# Altium footprint library ard_shield.PcbLib: 1 footprints
Each footprint in its own frame and in the unit in brackets; x right, y up, seen from the top. Pads: shape width x height; smd on the part's side, far side on the other; paste and mask are expansions set on the pad; w line width, h text height; cw(c..) or ccw(c..) is an arc to the next point about the centre after c.
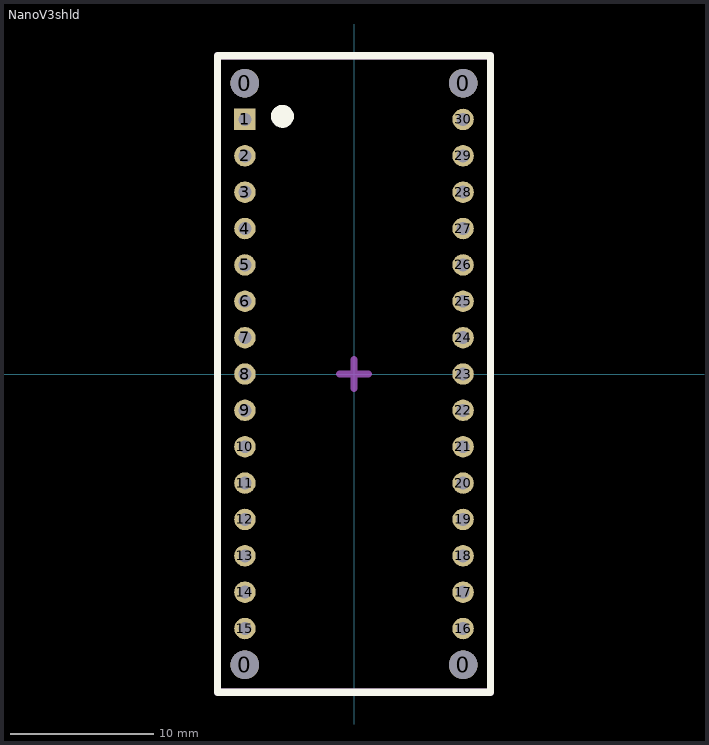
[diagram p0: the footprint, top view; thin cyan lines are the x and y axes]

## NanoV3shld [mm]
height 7.5
pads (34):
  round 2 hole 2: 0(-7.62,-20.32) 0(-7.62,20.32) 0(7.62,-20.32) 0(7.62,20.32)
  rect 1.5x1.5 hole 0.9: 1(-7.62,17.78)
  round 1.5 hole 0.9: 2(-7.62,15.24) 3(-7.62,12.7) 4(-7.62,10.16) 5(-7.62,7.62) 6(-7.62,5.08) 7(-7.62,2.54) 8(-7.62,0) 9(-7.62,-2.54) 10(-7.62,-5.08) 11(-7.62,-7.62) 12(-7.62,-10.16) 13(-7.62,-12.7) 14(-7.62,-15.24) 15(-7.62,-17.78) 16(7.62,-17.78) 17(7.62,-15.24) 18(7.62,-12.7) 19(7.62,-10.16) 20(7.62,-7.62) 21(7.62,-5.08) 22(7.62,-2.54) 23(7.62,0) 24(7.62,2.54) 25(7.62,5.08) 26(7.62,7.62) 27(7.62,10.16) 28(7.62,12.7) 29(7.62,15.24) 30(7.62,17.78)
Top Overlay:
  circle w0.8: c-5,18 r0.4
  lines w0.5: -9.525,-22.225 9.525,-22.225 9.525,22.225 -9.525,22.225 -9.525,-22.225
Mechanical 13:
  lines w0.5: -9.525,-22.225 9.525,-22.225 9.525,22.225 -9.525,22.225 -9.525,-22.225
Mechanical 15:
  lines w0.5: -1,0 0,0 ; 0,-1 0,0 ; 0,1 0,0 ; 1,0 0,0 ; -9.525,-22.225 9.525,-22.225 9.525,22.225 -9.525,22.225 -9.525,-22.225
3D body: height 13, standoff 10, extent -5.091,6.339 5.091,8.901
3D body: height 13, standoff 10, extent -5.091,-11.441 5.091,-8.879
3D body: height 11, standoff 10, extent -3.81,-6.35 3.81,1.27
3D body: height 10, standoff 8.5, extent -8.89,-21.59 8.89,21.59
3D body: height 12, standoff 10, extent -3.81,-21.59 3.81,-15.24